# EAGLE library part CNY74-2H (library MAÑE)
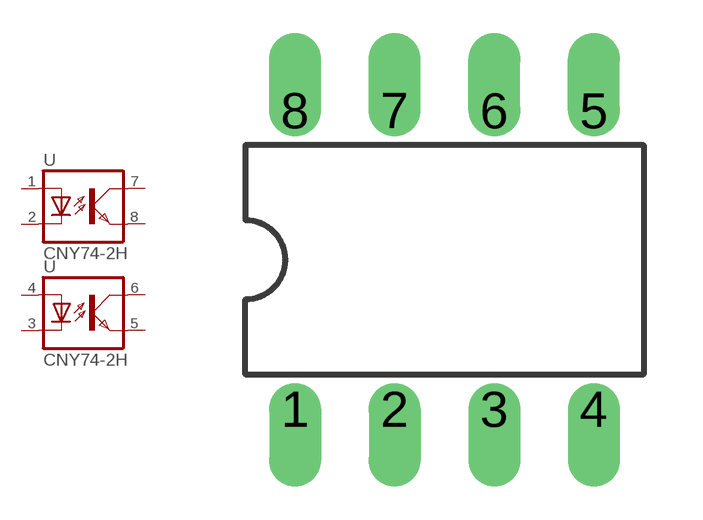
[diagram p29: symbol with the pads of IDL08; footprint IDL08]

Designator prefix -

## CNY74-2H  [IDL08]
1  A  pas
2  C  pas
3  C1  pas
4  A1  pas
5  EMIT1  pas
6  COL1  pas
7  COL  pas
8  EMIT  pas

## Footprint IDL08 (pad centres in mm)
drill 0.813 offset: 1 -3.81,-3.81; 2 -1.27,-3.81; 3 1.27,-3.81; 4 3.81,-3.81; 5 3.81,3.81; 6 1.27,3.81; 7 -1.27,3.81; 8 -3.81,3.81